# EAGLE library part TPS6305X (library Eric Navarrete Custom Parts Feb 2019)
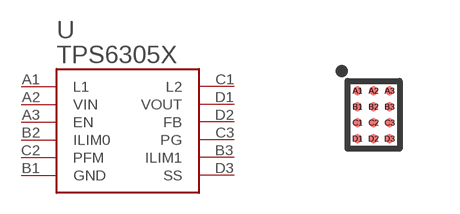
[diagram p15: symbol with the pads of DSBGA(12); footprint DSBGA(12)]

Designator prefix U

## TPS6305X  [DSBGA(12)]
A1  L1
A2  VIN
A3  EN
B1  GND
B2  ILIM0
B3  ILIM1
C1  L2
C2  PFM
C3  PG
D1  VOUT
D2  FB
D3  SS

## Footprint DSBGA(12) (pad centres in mm)
smd 0.23 x 0.23: A1 -0.4,0.6; A2 0,0.6; A3 0.4,0.6; B1 -0.4,0.2; B2 0,0.2; B3 0.4,0.2; C1 -0.4,-0.2; C2 0,-0.2; C3 0.4,-0.2; D1 -0.4,-0.6; D2 0,-0.6; D3 0.4,-0.6